# Altium footprint library Radiators.PcbLib: 5 footprints
Each footprint in its own frame and in the unit in brackets; x right, y up, seen from the top. Pads: shape width x height; smd on the part's side, far side on the other; paste and mask are expansions set on the pad; w line width, h text height; cw(c..) or ccw(c..) is an arc to the next point about the centre after c.
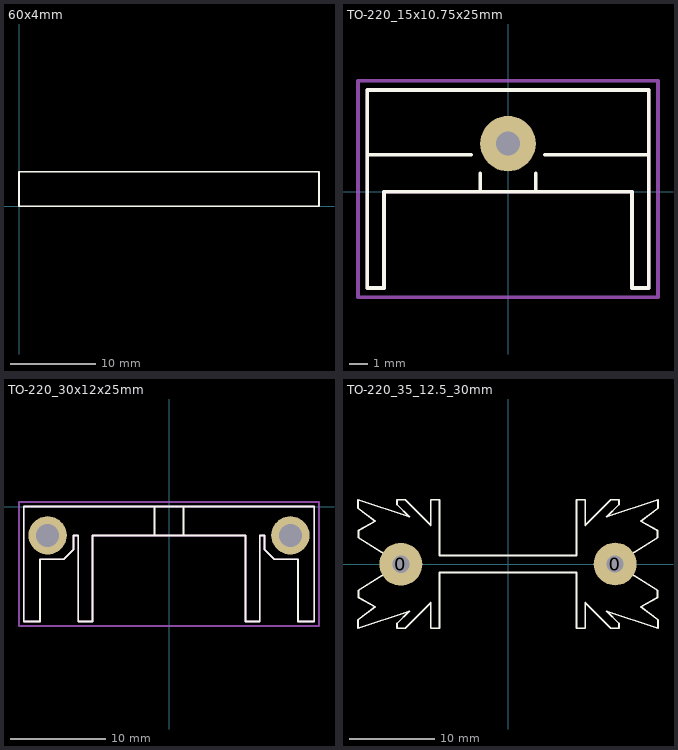
[diagram p0: the footprints below, top view; thin cyan lines are the x and y axes]

## 60x4mm [mm]
Top Overlay:
  lines w0.2: 0,0 35,0 35,4 0,4 0,0
3D body: height 30, standoff 0, extent -0.1,-0.1 35,4.1

## For_velding [mm]
3D body "User Library-Male - Female Hexagonal Threaded Standoffs; length 8mm; key 5mm; M3x5mm and M3x8mm.STEP": height 16, standoff 0, extent 97.263,-5.374 103.036,-0.374
3D body "User Library-Male - Female Hexagonal Threaded Standoffs; length 8mm; key 5mm; M3x5mm and M3x8mm.STEP": height 16, standoff 0, extent 192.263,-5.374 198.036,-0.374
3D body "User Library-Male - Female Hexagonal Threaded Standoffs; length 8mm; key 5mm; M3x5mm and M3x8mm.STEP": height 16, standoff 0, extent 2.263,-5.374 8.036,-0.374
3D body: height 11, standoff 8, extent 0,-24.999 199.999,-6
3D body: height 50, standoff 8, extent 0,-5.999 199.999,0
3D body: height 20.75, standoff 17.75, extent 0,-24.999 199.999,-6
3D body: height 30.5, standoff 27.5, extent 0,-24.999 199.999,-6
3D body: height 40.25, standoff 37.25, extent 0,-24.999 199.999,-6
3D body: height 50, standoff 47, extent 0,-24.999 199.999,-6

## TO-220_15x10.75x25mm [mm]
pads (1):
  round 3 hole 1.3: ""(0,2.6)
Top Overlay:
  lines w0.2: -7.6,2 -2,2 ; -1.5,0 -1.5,1 ; 1.5,0 1.5,1 ; 2,2 7.6,2 ; -7.6,-5.2 -6.7,-5.2 -6.7,0 6.7,0 6.7,-5.2 7.6,-5.2 7.6,5.5 -7.6,5.5 -7.6,-5.2
Board:
  lines w0.2: -7.6,-5.2 -6.7,-5.2 -6.7,0 0,0 6.7,0 6.7,-5.2 7.6,-5.2 7.6,5.5 -7.6,5.5 -7.6,-5.2
TopAssy:
  lines w0.2: -8.1,-5.7 8.1,-5.7 8.1,6 -8.1,6 -8.1,-5.7
3D body: height 0, standoff -3, extent -0.595,2.001 0.6,3.199
3D body: height 25, standoff 0, extent -7.599,-5.199 7.599,5.499

## TO-220_30x12x25mm [mm]
pads (2):
  round 4 hole 2.4: ""(-12.7,-3) ""(12.7,-3)
Top Overlay:
  lines w0.2: -1.5,-3 -1.5,0 ; 1.5,-3 1.5,0 ; -15.2,-12 -15.2,0 15.2,0 15.2,-12 13.5,-12 13.5,-5.5 11,-5.5 10,-4.5 10,-3 9.5,-3 9.5,-12 8,-12 8,-3 -8,-3 -8,-12 -9.5,-12 -9.5,-3 -10,-3 -10,-4.5 -11,-5.5 -13.5,-5.5 -13.5,-12 -15.2,-12
TopAssy:
  lines w0.2: -15.7,-12.5 15.7,-12.5 15.7,0.5 -15.7,0.5 -15.7,-12.5
Top3D:
  lines w0.2: -15.2,-12 -15.2,0 0,0 15.2,0 15.2,-12 13.5,-12 13.5,-5.5 11,-5.5 10,-4.5 10,-3 9.5,-3 9.5,-12 8,-12 8,-3 -8,-3 -8,-12 -9.5,-12 -9.5,-3 -10,-3 -10,-4.5 -11,-5.5 -13.5,-5.5 -13.5,-12 -15.2,-12
3D body: height 0, standoff -3, extent -13.692,-3.998 -11.7,-2.002
3D body: height 0, standoff -3, extent 11.708,-3.998 13.7,-2.002
3D body: height 25, standoff 0, extent -15.201,-12.001 15.201,0.001

## TO-220_35_12.5_30mm [mm]
pads (2):
  round 5 hole 2: 0(-12.5,-0.026) 0(12.5,0)
Top Overlay:
  lines w0.2: -12.516,-0.026 -17.446,3.054 -17.446,3.906 -15.5,5 -17.5,6.5 -17.5,7.5 -11.5,5.5 -12.949,6.949 -12.949,7.5 -12,7.5 -11.975,7.475 -9,4.5 -9,7.5 -8,7.5 -8,1 0,1 8,1 8,7.5 9,7.5 9,4.5 11.975,7.475 12,7.5 12.949,7.5 12.949,6.949 11.5,5.5 17.5,7.5 17.5,6.5 15.5,5 17.446,3.906 17.446,3.054 12.516,-0.026 ; -12.516,0.026 -17.446,-3.054 -17.446,-3.906 -15.5,-5 -17.5,-6.5 -17.5,-7.5 -11.5,-5.5 -12.949,-6.949 -12.949,-7.5 -12,-7.5 -11.975,-7.475 -9,-4.5 -9,-7.5 -8,-7.5 -8,-1 0,-1 8,-1 8,-7.5 9,-7.5 9,-4.5 11.975,-7.475 12,-7.5 12.949,-7.5 12.949,-6.949 11.5,-5.5 17.5,-7.5 17.5,-6.5 15.5,-5 17.446,-3.906 17.446,-3.054 12.516,0.026
3D body: height 30, standoff 0, extent -17.501,-7.501 17.501,7.501